# Altium integrated library CDE_Library.IntLib: 6171 symbols (part 25 of 25)
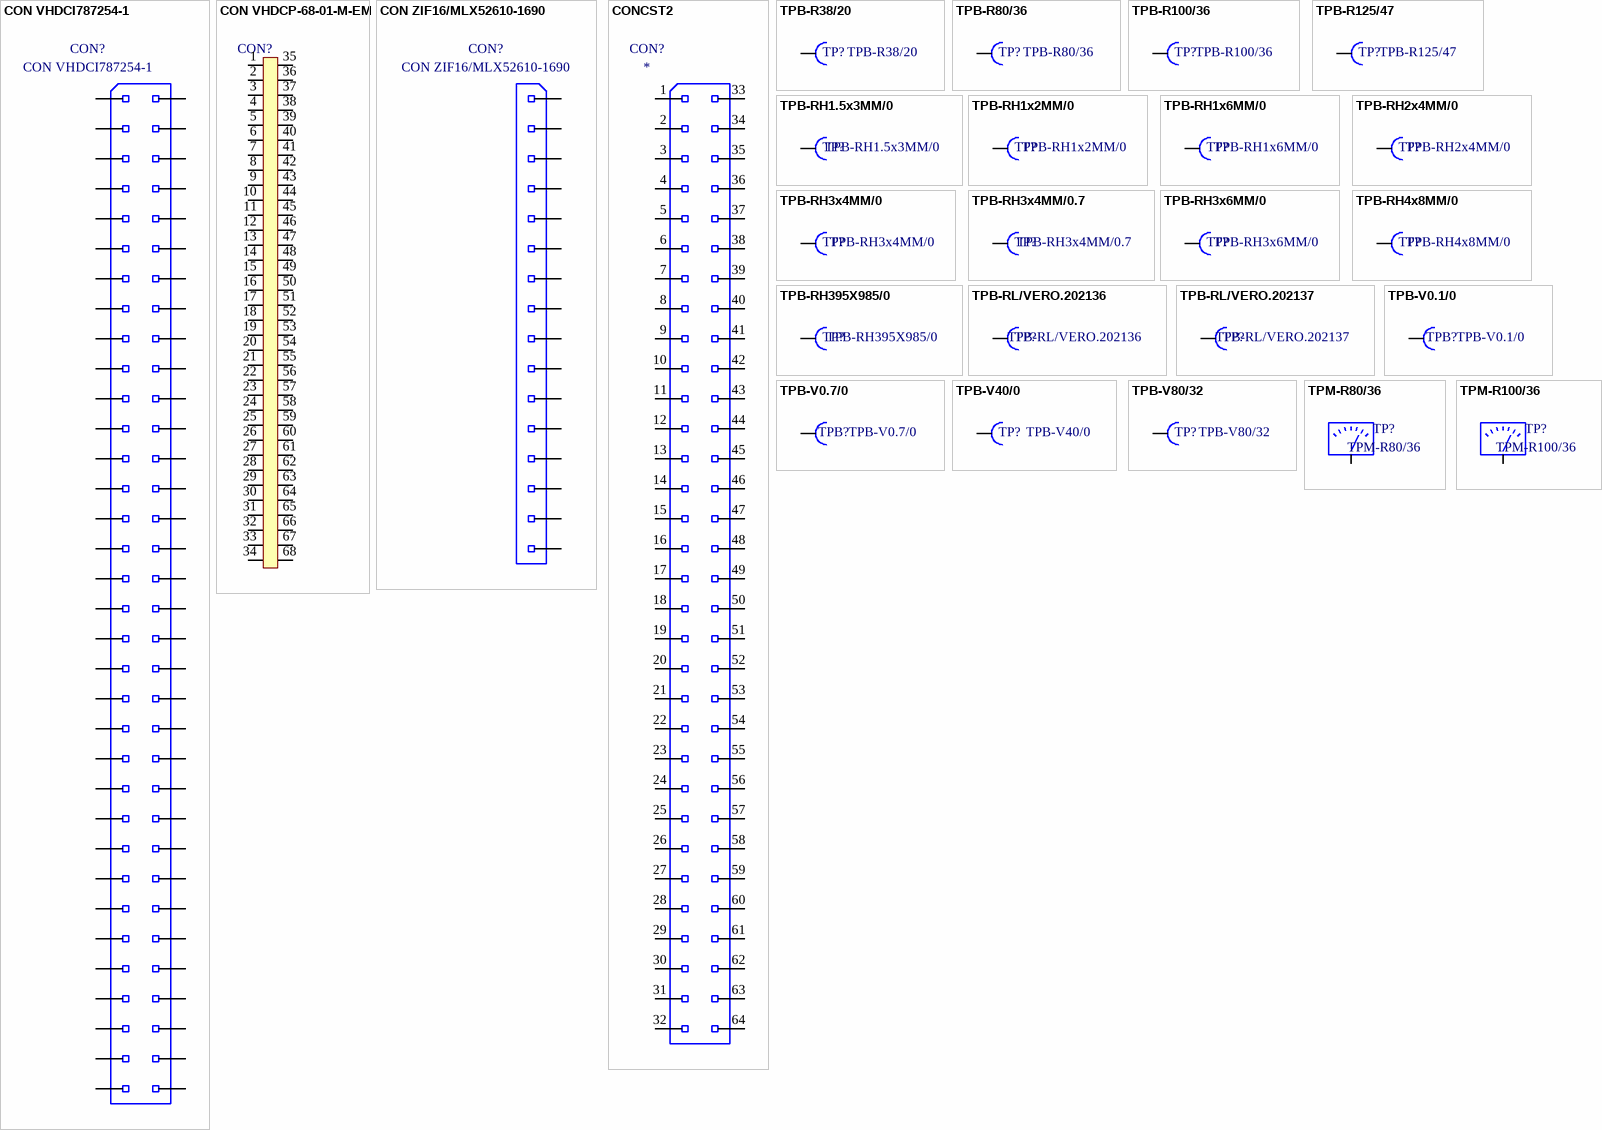
[diagram p281: symbols CON VHDCI787254-1 to TPM-R100/36]

## TPB-R80/36
designator TP?
testpunt, boog-symbool, pad rond 80/36; Part Number: TPB-R80/36; Component Kind: Standard; Component Type: Standard; Designator: TPB-R80/36; Footprint: TESTPOINT (pad R 80/36); Library Reference: TPB-R80/36; Pin Count: 1
footprint TESTPOINT (pad R 80/36)
pins: 1

## TPB-R100/36
designator TP?
testpunt, boog-symbool, pad rond 100/36; Part Number: TPB-R100/36; Component Kind: Standard; Component Type: Standard; Designator: TPB-R100/36; Footprint: TESTPOINT (pad R 100/36); Library Reference: TPB-R100/36; Pin Count: 1
footprint TESTPOINT (pad R 100/36)
pins: 1

## TPB-R125/47
designator TP?
testpunt, boog-symbool, pad rond 125/47; Part Number: TPB-R125/47; Component Kind: Standard; Component Type: Standard; Designator: TPB-R125/47; Footprint: TESTPOINT (pad R 125/47); Library Reference: TPB-R125/47; Pin Count: 1
footprint TESTPOINT (pad R 125/47)
pins: 1

## TPB-RH1.5x3MM/0
designator TP?
testpunt, boog-symbool, pad rechthoekig 1.5x3mm/0; Part Number: TPB-RH1.5x3MM/0; Component Kind: Standard; Component Type: Standard; Designator: TPB-RH1.5x3MM/0; Footprint: TESTPOINT (pad RH 1.5x3mm/0); Library Reference: TPB-RH1.5x3MM/0; Pin Count: 1
footprint TESTPOINT (pad RH 1.5x3mm/0)
pins: 1

## TPB-RH1x2MM/0
designator TP?
testpunt, boog-symbool, pad rechthoekig 1x2mm/0; Part Number: TPB-RH1x2MM/0; Component Kind: Standard; Component Type: Standard; Designator: TPB-RH1x2MM/0; Footprint: TESTPOINT (pad RH 1x2mm/0); Library Reference: TPB-RH1x2MM/0; Pin Count: 1
footprint TESTPOINT (pad RH 1x2mm/0)
pins: 1

## TPB-RH1x6MM/0
designator TP?
testpunt, boog-symbool, pad rechthoekig 3x6mm/0; Part Number: TPB-RH1x6MM/0; Component Kind: Standard; Component Type: Standard; Designator: TPB-RH1x6MM/0; Footprint: TESTPOINT (pad RH 1x6mm/0); Library Reference: TPB-RH1x6MM/0; Pin Count: 1
pins: 1

## TPB-RH2x4MM/0
designator TP?
testpunt, boog-symbool, pad rechthoekig 2x4mm/0; Part Number: TPB-RH2x4MM/0; Component Kind: Standard; Component Type: Standard; Designator: TPB-RH2x4MM/0; Footprint: TESTPOINT (pad RH 2x4mm/0); Library Reference: TPB-RH2x4MM/0; Pin Count: 1
footprint TESTPOINT (pad RH 2x4mm/0)
pins: 1

## TPB-RH3x4MM/0
designator TP?
testpunt, boog-symbool, pad rechthoekig 3x4mm/0; Part Number: TPB-RH3x4MM/0; Component Kind: Standard; Component Type: Standard; Designator: TPB-RH3x4MM/0; Footprint: TESTPOINT (pad RH 3x4mm/0); Library Reference: TPB-RH3x4MM/0; Pin Count: 1
footprint TESTPOINT (pad RH 3x4mm/0)
pins: 1

## TPB-RH3x4MM/0.7
designator TP?
testpunt, boog-symbool, pad rechthoekig 3x4mm/0.7; Part Number: TPB-RH3x4MM/0.7; Component Kind: Standard; Component Type: Standard; Designator: TPB-RH3x4MM/0.7; Footprint: TESTPOINT (pad RH 3x4mm/0.7); Library Reference: TPB-RH3x4MM/0.7; Pin Count: 1
footprint TESTPOINT (pad RH 3x4mm/0.7)
pins: 1

## TPB-RH3x6MM/0
designator TP?
testpunt, boog-symbool, pad rechthoekig 3x6mm/0; Part Number: TPB-RH3x6MM/0; Component Kind: Standard; Component Type: Standard; Designator: TPB-RH3x6MM/0; Footprint: TESTPOINT (pad RH 3x6mm/0); Library Reference: TPB-RH3x6MM/0; Pin Count: 1
footprint TESTPOINT (pad RH 3x6mm/0)
pins: 1

## TPB-RH4x8MM/0
designator TP?
testpunt, boog-symbool, pad rechthoekig 4x8mm/0; Part Number: TPB-RH4x8MM/0; Component Kind: Standard; Component Type: Standard; Designator: TPB-RH4x8MM/0; Footprint: TESTPOINT (pad RH 4x8mm/0); Library Reference: TPB-RH4x8MM/0; Pin Count: 1
footprint TESTPOINT (pad RH 4x8mm/0)
pins: 1

## TPB-RH395X985/0
designator TP?
testpunt, boog-symbool, pad rechthoekig 395x985/0; Part Number: TPB-RH395X985/0; Component Kind: Standard; Component Type: Standard; Designator: TPB-RH395X985/0; Footprint: TESTPOINT (pad RH 395x985/0); Library Reference: TPB-RH395X985/0; Pin Count: 1
footprint TESTPOINT (pad RH 395x985/0)
pins: 1

## TPB-RL/VERO.202136
designator TP?
testpunt, boog-symbool, draadlus Vero 20-2136; Part Number: TPB-RL/VERO.202136; Component Kind: Standard; Component Type: Standard; Designator: TPB-RL/VERO.202136; Footprint: TESTPOINT (RL/VERO.202136); Library Reference: TPB-RL/VERO.202136; Pin Count: 1
footprint TESTPOINT (RL/VERO.202136)
pins: 1

## TPB-RL/VERO.202137
designator TP?
testpunt, boog-symbool, draadlus Vero 20-2136; Part Number: TPB-RL/VERO.202137; Component Kind: Standard; Component Type: Standard; Designator: TPB-RL/VERO.202137; Footprint: TESTPOINT (RL/VERO.202137); Library Reference: TPB-RL/VERO.202137; Pin Count: 1
pins: 1

## TPB-V0.1/0
designator TPB?
testpunt 0.1mm; Part Number: TPB-V0.1/0; Component Kind: Standard; Component Type: Standard; Designator: TPB-V0.1/0; Footprint: TESTPOINT (pad V 0.1/0); Library Reference: TPB-V0.1/0; Pin Count: 1
footprint TESTPOINT (pad V 0.1/0)
pins: 1

## TPB-V0.7/0
designator TPB?
testpunt 0.7mm
footprint TESTPOINT (pad V 0.7/0)
pins: 1

## TPB-V40/0
designator TP?
testpunt, boog-symbool, pad vierkant 100/36; Part Number: TPB-V40/0; Component Kind: Standard; Component Type: Standard; Designator: TPB-V40/0; Footprint: TESTPOINT (pad V 40/0); Library Reference: TPB-V40/0; Pin Count: 1
footprint TESTPOINT (pad V 40/0)
pins: 1

## TPB-V80/32
designator TP?
testpunt, boog-symbool, pad vierkant 80/32; Part Number: TPB-V80/32; Component Kind: Standard; Component Type: Standard; Designator: TPB-V80/32; Footprint: TESTPOINT (pad V 80/32); Library Reference: TPB-V80/32; Pin Count: 1
footprint TESTPOINT (pad V 80/32)
pins: 1

## TPM-R80/36
designator TP?
testpunt, meter-symbool, pad rond 80/36; Part Number: TPM-R80/36; Component Kind: Standard; Component Type: Standard; Designator: TPM-R80/36; Footprint: TESTPOINT (pad R 80/36); Library Reference: TPM-R80/36; Pin Count: 1
footprint TESTPOINT (pad R 80/36)
pins: 1

## TPM-R100/36
designator TP?
testpunt, meter-symbool, pad rond 100/36; Part Number: TPM-R100/36; Component Kind: Standard; Component Type: Standard; Designator: TPM-R100/36; Footprint: TESTPOINT (pad R 100/36); Library Reference: TPM-R100/36; Pin Count: 1
footprint TESTPOINT (pad R 100/36)
pins: 1